# Altium integrated library TI_Logic_Specialty_Logic.IntLib: 2504 symbols (part 26 of 81)
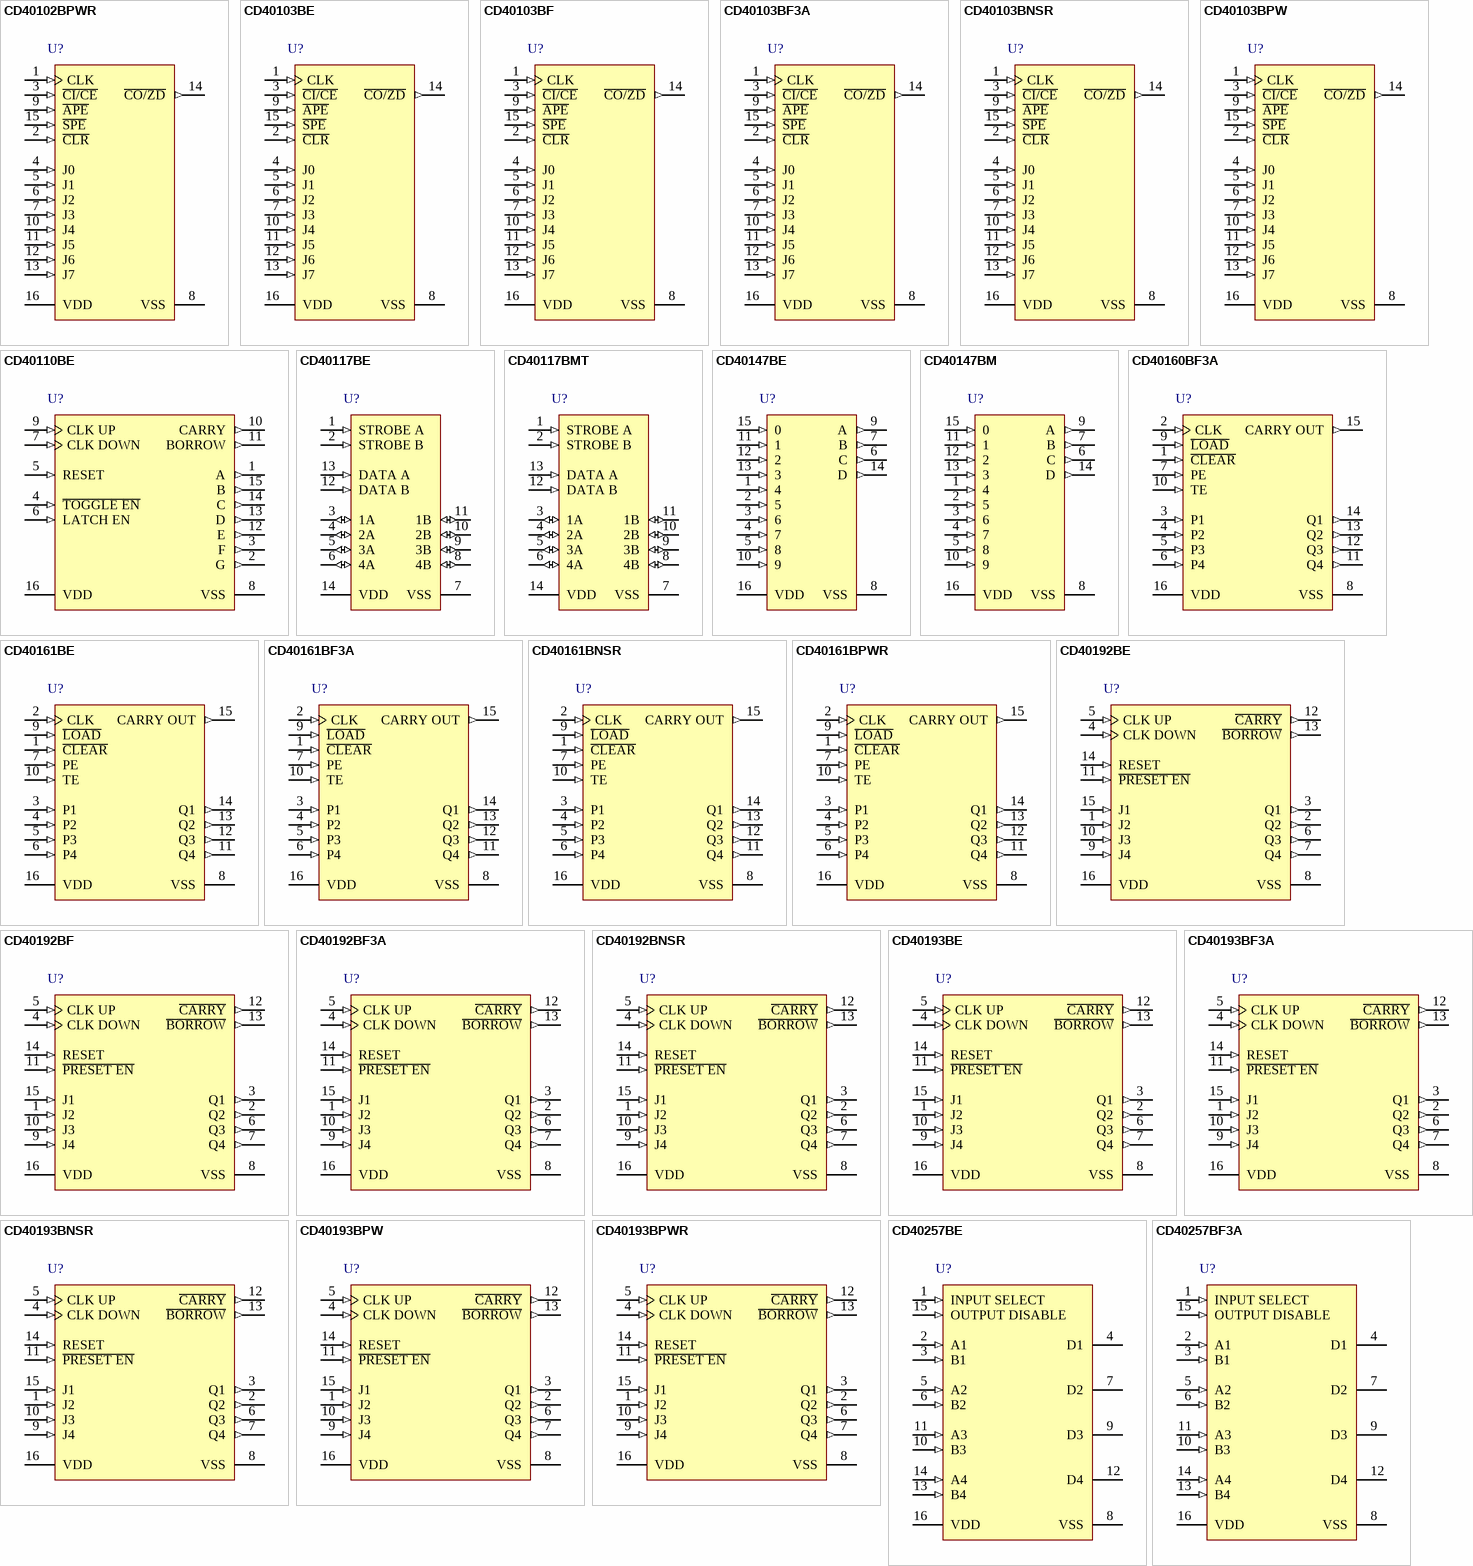
[diagram p129: symbols CD40102BPWR to CD40257BF3A]

## CD40192BNSR
designator U?
CMOS Presettable BCD Up/Down Counter (Dual Clock with Reset), NS0016A, LARGE T&R; Generic Part Number: CD40192B; Manufacturer: Texas Instruments; PartNumber: CD40192BNSR; VCC(Max)(V): 18; VCC(Min)(V): 3; Inputs: 1; ICC @ Nom Voltage(Max)(mA): 0.03; Bits(#): 4; F @ Nom Voltage(Max)(Mhz): 8; Rating: Catalog; Technology Family: CD4000; Voltage(Nom)(V): 5,10,15; Schmitt Trigger: No; Output Drive (IOL/IOH)(Max)(mA): 1.5/-1.5; tpd @ Nom Voltage(Max)(ns): 240; DatasheetVersion: SCHS106B; PackageReference: NS0016A; Supplier 1: Mouser; Supplier Part Number 1: 595-CD40192BNSR; Supplier 2: Digi-Key; Supplier Part Number 2: 296-14096-2-ND; Supplier 3: Digi-Key; Supplier Part Number 3: 296-14096-1-ND; Supplier 4: Digi-Key; Supplier Part Number 4: 296-14096-6-ND; Output Type: CMOS; Function: Counter; Input Type: CMOS; Operating Temperature Range(C): -55 to 125; Type: Other; ComponentLink1Description: Manufacturer URL; ComponentLink1URL: http://www.ti.com/; ComponentLink2Description: Datasheet; ComponentLink2URL: http://www.ti.com/lit/ds/symlink/cd40192b.pdf; ComponentLink3Description: Package Specification; ComponentLink3URL: http://www.ti.com/lit/ml/msop002a/msop002a.pdf
footprint NS0016A_N (SOIC,16-Leads,Body 10.5x5.6mm,Pitch 1.27mm,IPC Medium Density)
footprint NS0016A_M (SOIC,16-Leads,Body 10.5x5.6mm,Pitch 1.27mm,IPC Low Density)
footprint NS0016A_L (SOIC,16-Leads,Body 10.5x5.6mm,Pitch 1.27mm,IPC High Density)
pins: 1 J2 (in), 2 Q2 (out), 3 Q1 (out), 4 CLK DOWN (in), 5 CLK UP (in), 6 Q3 (out), 7 Q4 (out), 8 VSS (power), 9 J4 (in), 10 J3 (in), 11 ~{PRESET EN} (in), 12 ~{CARRY} (out), 13 ~{BORROW} (out), 14 RESET (in), 15 J1 (in), 16 VDD (power)

## CD40193BE
designator U?
CMOS Presettable Binary Up/Down Counter (Dual Clock with Reset), N0016A, TUBE; Generic Part Number: CD40193B; Manufacturer: Texas Instruments; PartNumber: CD40193BE; VCC(Max)(V): 18; VCC(Min)(V): 3; Inputs: 1; ICC @ Nom Voltage(Max)(mA): 0.03; Bits(#): 4; F @ Nom Voltage(Max)(Mhz): 8; Rating: Military; Technology Family: CD4000; Voltage(Nom)(V): 10; Schmitt Trigger: No; Output Drive (IOL/IOH)(Max)(mA): 1.5/-1.5; tpd @ Nom Voltage(Max)(ns): 240; DatasheetVersion: SCHS106B; PackageReference: N0016A; Supplier 1: Mouser; Supplier Part Number 1: 595-CD40193BE; Supplier 2: Digi-Key; Supplier Part Number 2: 296-3510-5-ND; Output Type: CMOS; Function: Counter; Input Type: CMOS; Operating Temperature Range(C): -55 to 125; Type: Binary; Code_JEDEC: MS-001; ComponentLink1Description: Manufacturer URL; ComponentLink1URL: http://www.ti.com/; ComponentLink2Description: Datasheet; ComponentLink2URL: http://www.ti.com/lit/ds/symlink/cd40193b.pdf; ComponentLink3Description: Package Specification; ComponentLink3URL: http://www.ti.com/lit/ml/mpdi002c/mpdi002c.pdf
footprint N0016A (DIP, 16-Leads, Body 19.7x6.6mm, Pitch 2.54mm)
pins: 1 J2 (in), 2 Q2 (out), 3 Q1 (out), 4 CLK DOWN (in), 5 CLK UP (in), 6 Q3 (out), 7 Q4 (out), 8 VSS (power), 9 J4 (in), 10 J3 (in), 11 ~{PRESET EN} (in), 12 ~{CARRY} (out), 13 ~{BORROW} (out), 14 RESET (in), 15 J1 (in), 16 VDD (power)

## CD40193BF3A
designator U?
CMOS Presettable Binary Up/Down Counter (Dual Clock with Reset), J0016A, TUBE; Generic Part Number: CD40193B-MIL; Manufacturer: Texas Instruments; PartNumber: CD40193BF3A; VCC(Max)(V): 18; VCC(Min)(V): 3; Inputs: 1; ICC @ Nom Voltage(Max)(mA): 0.03; Bits(#): 4; F @ Nom Voltage(Max)(Mhz): 8; Rating: Military; Technology Family: CD4000; Voltage(Nom)(V): 10; Schmitt Trigger: No; Output Drive (IOL/IOH)(Max)(mA): 1.5/-1.5; tpd @ Nom Voltage(Max)(ns): 240; DatasheetVersion: SCHS106B; PackageReference: J0016A; Output Type: CMOS; Function: Counter; Input Type: CMOS; Operating Temperature Range(C): -55 to 125; Type: Binary; ComponentLink1Description: Manufacturer URL; ComponentLink1URL: http://www.ti.com/; ComponentLink2Description: Datasheet; ComponentLink2URL: http://www.ti.com/lit/ds/symlink/cd40193b-mil.pdf; ComponentLink3Description: Package Specification; ComponentLink3URL: http://www.ti.com/lit/ml/mcer002d/mcer002d.pdf
footprint J0016A (DIP, 16-Leads, Body 21.35x7.2mm, Pitch 2.54mm)
pins: 1 J2 (in), 2 Q2 (out), 3 Q1 (out), 4 CLK DOWN (in), 5 CLK UP (in), 6 Q3 (out), 7 Q4 (out), 8 VSS (power), 9 J4 (in), 10 J3 (in), 11 ~{PRESET EN} (in), 12 ~{CARRY} (out), 13 ~{BORROW} (out), 14 RESET (in), 15 J1 (in), 16 VDD (power)

## CD40193BNSR
designator U?
CMOS Presettable Binary Up/Down Counter (Dual Clock with Reset), NS0016A, LARGE T&R; Generic Part Number: CD40193B; Manufacturer: Texas Instruments; PartNumber: CD40193BNSR; VCC(Max)(V): 18; VCC(Min)(V): 3; Inputs: 1; ICC @ Nom Voltage(Max)(mA): 0.03; Bits(#): 4; F @ Nom Voltage(Max)(Mhz): 8; Rating: Military; Technology Family: CD4000; Voltage(Nom)(V): 10; Schmitt Trigger: No; Output Drive (IOL/IOH)(Max)(mA): 1.5/-1.5; tpd @ Nom Voltage(Max)(ns): 240; DatasheetVersion: SCHS106B; PackageReference: NS0016A; Supplier 1: Mouser; Supplier Part Number 1: 595-CD40193BNSR; Supplier 2: Digi-Key; Supplier Part Number 2: 296-28692-2-ND; Supplier 3: Digi-Key; Supplier Part Number 3: 296-28692-1-ND; Supplier 4: Digi-Key; Supplier Part Number 4: 296-28692-6-ND; Output Type: CMOS; Function: Counter; Input Type: CMOS; Operating Temperature Range(C): -55 to 125; Type: Binary; ComponentLink1Description: Manufacturer URL; ComponentLink1URL: http://www.ti.com/; ComponentLink2Description: Datasheet; ComponentLink2URL: http://www.ti.com/lit/ds/symlink/cd40193b.pdf; ComponentLink3Description: Package Specification; ComponentLink3URL: http://www.ti.com/lit/ml/msop002a/msop002a.pdf
footprint NS0016A_N (SOIC,16-Leads,Body 10.5x5.6mm,Pitch 1.27mm,IPC Medium Density)
footprint NS0016A_M (SOIC,16-Leads,Body 10.5x5.6mm,Pitch 1.27mm,IPC Low Density)
footprint NS0016A_L (SOIC,16-Leads,Body 10.5x5.6mm,Pitch 1.27mm,IPC High Density)
pins: 1 J2 (in), 2 Q2 (out), 3 Q1 (out), 4 CLK DOWN (in), 5 CLK UP (in), 6 Q3 (out), 7 Q4 (out), 8 VSS (power), 9 J4 (in), 10 J3 (in), 11 ~{PRESET EN} (in), 12 ~{CARRY} (out), 13 ~{BORROW} (out), 14 RESET (in), 15 J1 (in), 16 VDD (power)

## CD40193BPW
designator U?
CMOS Presettable Binary Up/Down Counter (Dual Clock with Reset), PW0016A, TUBE; Generic Part Number: CD40193B; Manufacturer: Texas Instruments; PartNumber: CD40193BPW; VCC(Max)(V): 18; VCC(Min)(V): 3; Inputs: 1; ICC @ Nom Voltage(Max)(mA): 0.03; Bits(#): 4; F @ Nom Voltage(Max)(Mhz): 8; Rating: Military; Technology Family: CD4000; Voltage(Nom)(V): 10; Schmitt Trigger: No; Output Drive (IOL/IOH)(Max)(mA): 1.5/-1.5; tpd @ Nom Voltage(Max)(ns): 240; DatasheetVersion: SCHS106B; PackageReference: PW0016A; Supplier 1: Mouser; Supplier Part Number 1: 595-CD40193BPW; Supplier 2: Digi-Key; Supplier Part Number 2: 296-32871-5-ND; Output Type: CMOS; Function: Counter; Input Type: CMOS; Operating Temperature Range(C): -55 to 125; Type: Binary; Code_JEDEC: MO-153; ComponentLink1Description: Manufacturer URL; ComponentLink1URL: http://www.ti.com/; ComponentLink2Description: Datasheet; ComponentLink2URL: http://www.ti.com/lit/ds/symlink/cd40193b.pdf; ComponentLink3Description: Package Specification; ComponentLink3URL: http://www.ti.com/lit/ml/mpds361/mpds361.pdf
footprint PW0016A_N (SOP, 16-Leads, Body 5.1x4.5mm, Pitch 0.65mm, IPC Medium Density)
footprint PW0016A_M (SOP, 16-Leads, Body 5.1x4.5mm, Pitch 0.65mm, IPC Low Density)
footprint PW0016A_L (SOP, 16-Leads, Body 5.1x4.5mm, Pitch 0.65mm, IPC High Density)
pins: 1 J2 (in), 2 Q2 (out), 3 Q1 (out), 4 CLK DOWN (in), 5 CLK UP (in), 6 Q3 (out), 7 Q4 (out), 8 VSS (power), 9 J4 (in), 10 J3 (in), 11 ~{PRESET EN} (in), 12 ~{CARRY} (out), 13 ~{BORROW} (out), 14 RESET (in), 15 J1 (in), 16 VDD (power)

## CD40193BPWR
designator U?
CMOS Presettable Binary Up/Down Counter (Dual Clock with Reset), PW0016A, LARGE T&R; Generic Part Number: CD40193B; Manufacturer: Texas Instruments; PartNumber: CD40193BPWR; VCC(Max)(V): 18; VCC(Min)(V): 3; Inputs: 1; ICC @ Nom Voltage(Max)(mA): 0.03; Bits(#): 4; F @ Nom Voltage(Max)(Mhz): 8; Rating: Military; Technology Family: CD4000; Voltage(Nom)(V): 10; Schmitt Trigger: No; Output Drive (IOL/IOH)(Max)(mA): 1.5/-1.5; tpd @ Nom Voltage(Max)(ns): 240; DatasheetVersion: SCHS106B; PackageReference: PW0016A; Supplier 1: Mouser; Supplier Part Number 1: 595-CD40193BPWR; Supplier 2: Digi-Key; Supplier Part Number 2: 296-14253-2-ND; Supplier 3: Digi-Key; Supplier Part Number 3: 296-14253-1-ND; Supplier 4: Digi-Key; Supplier Part Number 4: 296-14253-6-ND; Output Type: CMOS; Function: Counter; Input Type: CMOS; Operating Temperature Range(C): -55 to 125; Type: Binary; Code_JEDEC: MO-153; ComponentLink1Description: Manufacturer URL; ComponentLink1URL: http://www.ti.com/; ComponentLink2Description: Datasheet; ComponentLink2URL: http://www.ti.com/lit/ds/symlink/cd40193b.pdf; ComponentLink3Description: Package Specification; ComponentLink3URL: http://www.ti.com/lit/ml/mpds361/mpds361.pdf
footprint PW0016A_N (SOP, 16-Leads, Body 5.1x4.5mm, Pitch 0.65mm, IPC Medium Density)
footprint PW0016A_M (SOP, 16-Leads, Body 5.1x4.5mm, Pitch 0.65mm, IPC Low Density)
footprint PW0016A_L (SOP, 16-Leads, Body 5.1x4.5mm, Pitch 0.65mm, IPC High Density)
pins: 1 J2 (in), 2 Q2 (out), 3 Q1 (out), 4 CLK DOWN (in), 5 CLK UP (in), 6 Q3 (out), 7 Q4 (out), 8 VSS (power), 9 J4 (in), 10 J3 (in), 11 ~{PRESET EN} (in), 12 ~{CARRY} (out), 13 ~{BORROW} (out), 14 RESET (in), 15 J1 (in), 16 VDD (power)

## CD40257BE
designator U?
CMOS Quad 2-Line-to-1-Line Data Selector/Multiplexer, N0016A, TUBE; Generic Part Number: CD40257B; Manufacturer: Texas Instruments; PartNumber: CD40257BE; VCC(Max)(V): 18; VCC(Min)(V): 3; Function: Encoder/Multiplexer; ICC @ Nom Voltage(Max)(mA): 0.06; Bits(#): 2; F @ Nom Voltage(Max)(Mhz): 8; Configuration: 2：1; Channels(#): 4; Rating: Catalog; Technology Family: CD4000; Voltage(Nom)(V): 5,10,15; Schmitt Trigger: No; Output Drive (IOL/IOH)(Max)(mA): 1.5/-1.5; tpd @ Nom Voltage(Max)(ns): 140; DatasheetVersion: SCHS108C; PackageReference: N0016A; Supplier 1: Mouser; Supplier Part Number 1: 595-CD40257BE; Supplier 2: Digi-Key; Supplier Part Number 2: 296-14259-5-ND; Output Type: CMOS; Input Type: CMOS; Operating Temperature Range(C): -55 to 125; Type: 3-State Output; Code_JEDEC: MS-001; ComponentLink1Description: Manufacturer URL; ComponentLink1URL: http://www.ti.com/; ComponentLink2Description: Datasheet; ComponentLink2URL: http://www.ti.com/lit/ds/symlink/cd40257b.pdf; ComponentLink3Description: Package Specification; ComponentLink3URL: http://www.ti.com/lit/ml/mpdi002c/mpdi002c.pdf
footprint N0016A (DIP, 16-Leads, Body 19.7x6.6mm, Pitch 2.54mm)
pins: 1 INPUT SELECT (in), 2 A1 (in), 3 B1 (in), 4 D1 (hiz), 5 A2 (in), 6 B2 (in), 7 D2 (hiz), 8 VSS (power), 9 D3 (hiz), 10 B3 (in), 11 A3 (in), 12 D4 (hiz), 13 B4 (in), 14 A4 (in), 15 OUTPUT DISABLE (in), 16 VDD (power)

## CD40257BF3A
designator U?
CMOS Quad 2-Line-to-1-Line Data Selector/Multiplexer, J0016A, TUBE; Generic Part Number: CD40257B-MIL; Manufacturer: Texas Instruments; PartNumber: CD40257BF3A; VCC(Max)(V): 18; VCC(Min)(V): 3; ICC @ Nom Voltage(Max)(mA): 0.06; F @ Nom Voltage(Max)(Mhz): 8; Channels(#): 4; Rating: Military; Technology Family: CD4000; Voltage(Nom)(V): 10; Schmitt Trigger: No; Output Drive (IOL/IOH)(Max)(mA): 1.5/-1.5; tpd @ Nom Voltage(Max)(ns): 140; DatasheetVersion: SCHS108C; PackageReference: J0016A; Operating Temperature Range(C): -55 to 125; ComponentLink1Description: Manufacturer URL; ComponentLink1URL: http://www.ti.com/; ComponentLink2Description: Datasheet; ComponentLink2URL: http://www.ti.com/lit/ds/symlink/cd40257b-mil.pdf; ComponentLink3Description: Package Specification; ComponentLink3URL: http://www.ti.com/lit/ml/mcer002d/mcer002d.pdf
footprint J0016A (DIP, 16-Leads, Body 21.35x7.2mm, Pitch 2.54mm)
pins: 1 INPUT SELECT (in), 2 A1 (in), 3 B1 (in), 4 D1 (hiz), 5 A2 (in), 6 B2 (in), 7 D2 (hiz), 8 VSS (power), 9 D3 (hiz), 10 B3 (in), 11 A3 (in), 12 D4 (hiz), 13 B4 (in), 14 A4 (in), 15 OUTPUT DISABLE (in), 16 VDD (power)

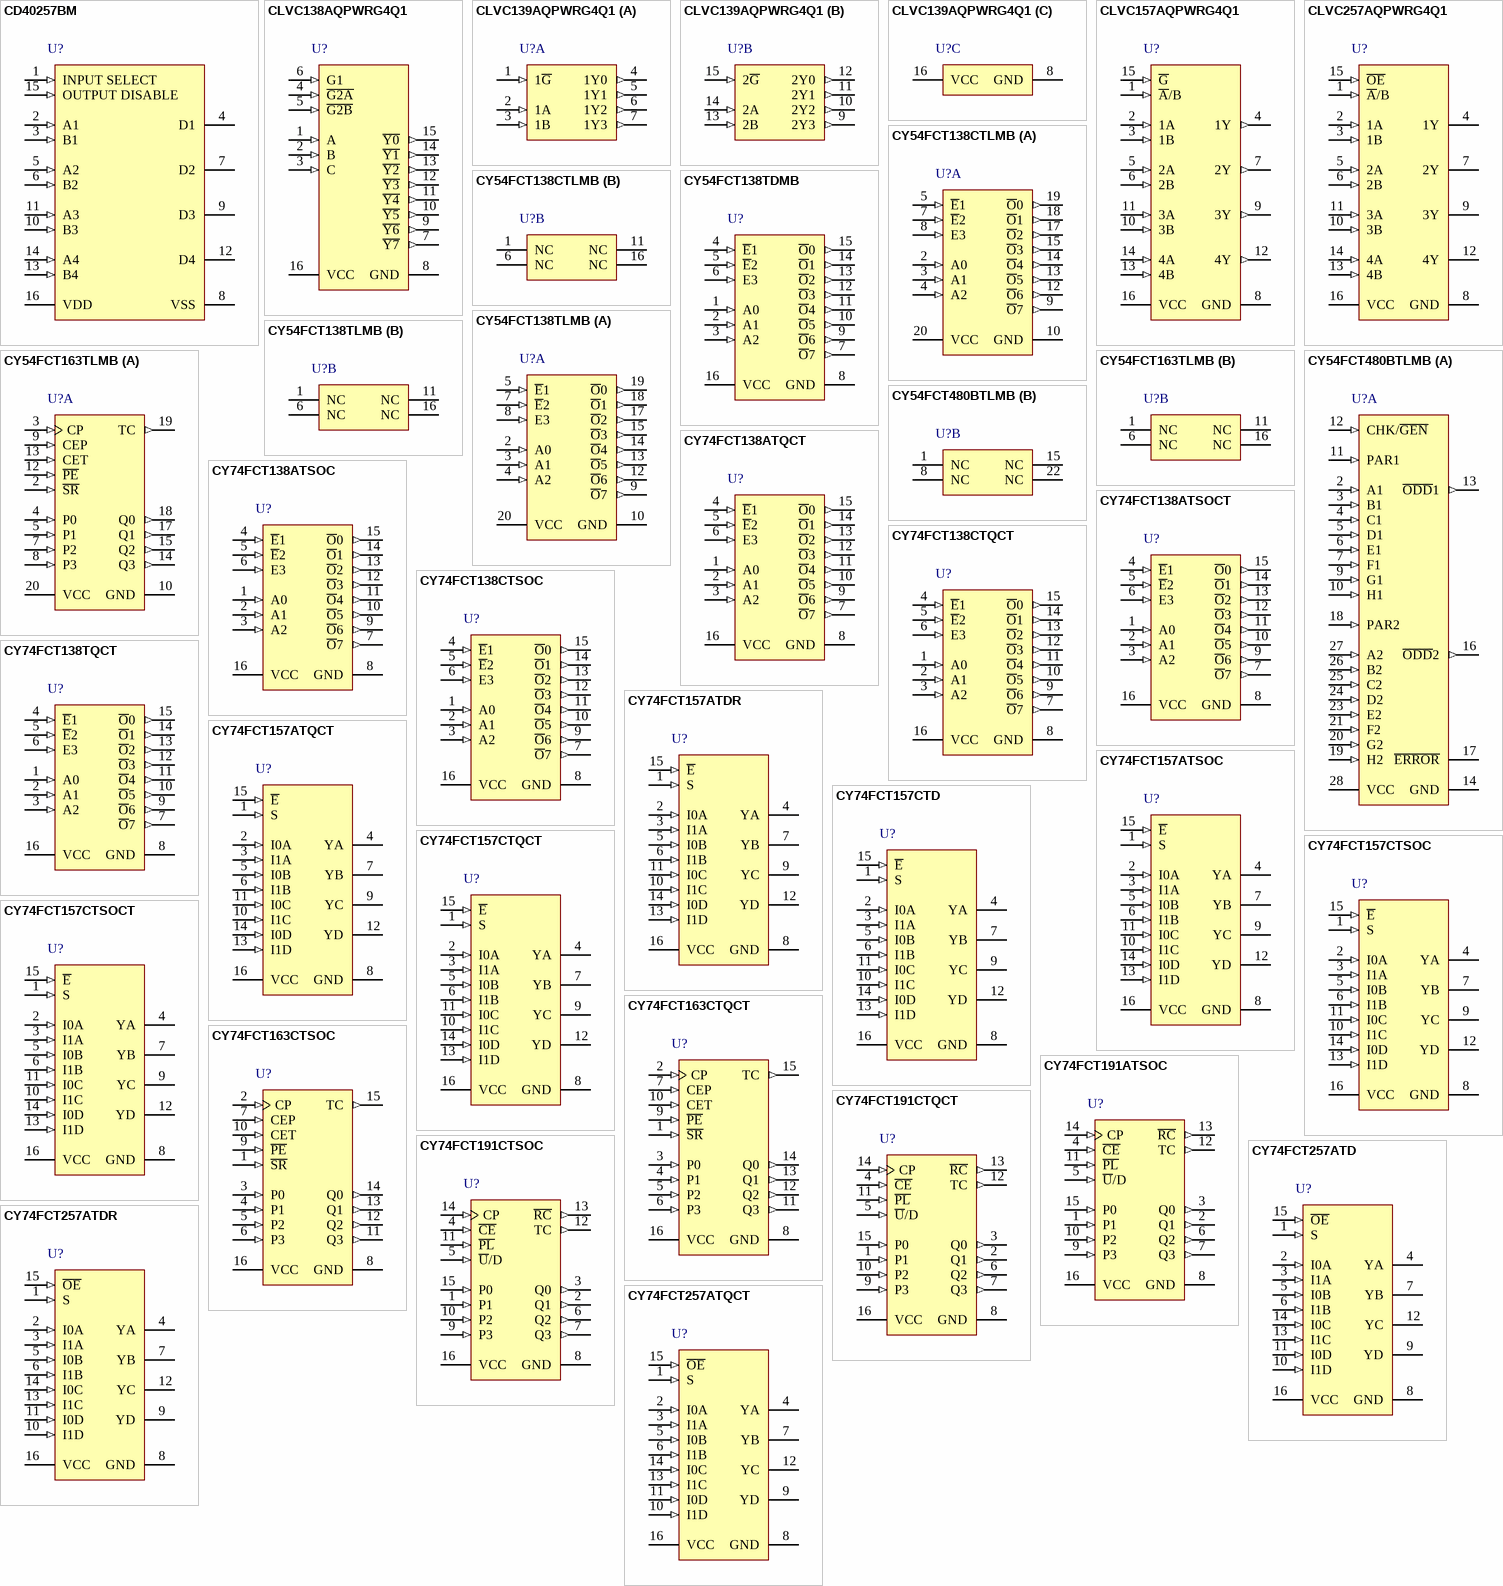
[diagram p35: symbols CD40257BM to CY74FCT257ATQCT]

## CD40257BM
designator U?
CMOS Quad 2-Line-to-1-Line Data Selector/Multiplexer, D0016A, TUBE; Generic Part Number: CD40257B; Manufacturer: Texas Instruments; PartNumber: CD40257BM; VCC(Max)(V): 18; VCC(Min)(V): 3; Function: Encoder/Multiplexer; ICC @ Nom Voltage(Max)(mA): 0.06; Bits(#): 2; F @ Nom Voltage(Max)(Mhz): 8; Configuration: 2：1; Channels(#): 4; Rating: Catalog; Technology Family: CD4000; Voltage(Nom)(V): 5,10,15; Schmitt Trigger: No; Output Drive (IOL/IOH)(Max)(mA): 1.5/-1.5; tpd @ Nom Voltage(Max)(ns): 140; DatasheetVersion: SCHS108C; PackageReference: D0016A; Supplier 1: Mouser; Supplier Part Number 1: 595-CD40257BM; Supplier 2: Digi-Key; Supplier Part Number 2: 296-32875-5-ND; Output Type: CMOS; Input Type: CMOS; Operating Temperature Range(C): -55 to 125; Type: 3-State Output; Code_JEDEC: MS-012 variation AC; ComponentLink1Description: Manufacturer URL; ComponentLink1URL: http://www.ti.com/; ComponentLink2Description: Datasheet; ComponentLink2URL: http://www.ti.com/lit/ds/symlink/cd40257b.pdf; ComponentLink3Description: Package Specification; ComponentLink3URL: http://www.ti.com/lit/ml/mpds178g/mpds178g.pdf
footprint D0016A_N (SOIC, 16-Leads, Body 10x4mm, Pitch 1.27mm, IPC Medium Density)
footprint D0016A_M (SOIC, 16-Leads, Body 10x4mm, Pitch 1.27mm, IPC Low Density)
footprint D0016A_L (SOIC, 16-Leads, Body 10x4mm, Pitch 1.27mm, IPC High Density)
pins: 1 INPUT SELECT (in), 2 A1 (in), 3 B1 (in), 4 D1 (hiz), 5 A2 (in), 6 B2 (in), 7 D2 (hiz), 8 VSS (power), 9 D3 (hiz), 10 B3 (in), 11 A3 (in), 12 D4 (hiz), 13 B4 (in), 14 A4 (in), 15 OUTPUT DISABLE (in), 16 VDD (power)

## CLVC138AQPWRG4Q1
designator U?
Automotive Catalog 3-Line To 8-Line decoder/Demultiplexer, PW0016A, LARGE T&R; Generic Part Number: SN74LVC138A-Q1; Manufacturer: Texas Instruments; PartNumber: CLVC138AQPWRG4Q1; VCC(Min)(V): 2; VCC(Max)(V): 3.6; Output Type: CMOS; ICC @ Nom Voltage(Max)(mA): 0.01; Input Type: TLL/CMOS; Bits(#): 8; F @ Nom Voltage(Max)(Mhz): 100; Channels(#): 1; Technology Family: LVC; Voltage(Nom)(V): 2.7,3.3; Schmitt Trigger: No; Output Drive (IOL/IOH)(Max)(mA): 24/-24; tpd @ Nom Voltage(Max)(ns): 7.9,6.7; DatasheetVersion: SCAS708B; PackageReference: PW0016A; Supplier 1: Mouser; Supplier Part Number 1: 595-CLVC138AQPWRG4Q1; Supplier 2: Digi-Key; Supplier Part Number 2: CLVC138AQPWRG4Q1-ND; Operating Temperature Range(C): -40 to 125; Type: Standard; Rating: Automotive; Code_JEDEC: MO-153; ComponentLink1Description: Manufacturer URL; ComponentLink1URL: http://www.ti.com/; ComponentLink2Description: Datasheet; ComponentLink2URL: http://www.ti.com/lit/ds/symlink/sn74lvc138a-q1.pdf; ComponentLink3Description: Package Specification; ComponentLink3URL: http://www.ti.com/lit/ml/mpds361/mpds361.pdf
footprint PW0016A_N (SOP, 16-Leads, Body 5.1x4.5mm, Pitch 0.65mm, IPC Medium Density)
footprint PW0016A_M (SOP, 16-Leads, Body 5.1x4.5mm, Pitch 0.65mm, IPC Low Density)
footprint PW0016A_L (SOP, 16-Leads, Body 5.1x4.5mm, Pitch 0.65mm, IPC High Density)
pins: 1 A (in), 2 B (in), 3 C (in), 4 ~{G2A} (in), 5 ~{G2B} (in), 6 G1 (in), 7 ~{Y7} (out), 8 GND (power), 9 ~{Y6} (out), 10 ~{Y5} (out), 11 ~{Y4} (out), 12 ~{Y3} (out), 13 ~{Y2} (out), 14 ~{Y1} (out), 15 ~{Y0} (out), 16 VCC (power)

## CLVC139AQPWRG4Q1
designator U?
Automotive Catalog Dual 2-Line To 4-Line Decoder/Demultiplexer, PW0016A, LARGE T&R; Generic Part Number: SN74LVC139A-Q1; Manufacturer: Texas Instruments; PartNumber: CLVC139AQPWRG4Q1; VCC(Min)(V): 1.65; VCC(Max)(V): 3.6; Output Type: CMOS; ICC @ Nom Voltage(Max)(mA): 0.01; Input Type: TLL/CMOS; Bits(#): 4; F @ Nom Voltage(Max)(Mhz): 100; Channels(#): 2; Technology Family: LVC; Voltage(Nom)(V): 2.7,3.3; Schmitt Trigger: No; Output Drive (IOL/IOH)(Max)(mA): 24/-24; tpd @ Nom Voltage(Max)(ns): 6.7,6.2; DatasheetVersion: SCAS782B; PackageReference: PW0016A; Supplier 1: Mouser; Supplier Part Number 1: 595-CLVC139AQPWRG4Q1; Supplier 2: Digi-Key; Supplier Part Number 2: 296-23523-2-ND; Supplier 3: Digi-Key; Supplier Part Number 3: 296-23523-1-ND; Supplier 4: Digi-Key; Supplier Part Number 4: 296-23523-6-ND; Operating Temperature Range(C): -40 to 125; Type: Standard; Rating: Automotive; Code_JEDEC: MO-153; ComponentLink1Description: Manufacturer URL; ComponentLink1URL: http://www.ti.com/; ComponentLink2Description: Datasheet; ComponentLink2URL: http://www.ti.com/lit/ds/symlink/sn74lvc139a-q1.pdf; ComponentLink3Description: Package Specification; ComponentLink3URL: http://www.ti.com/lit/ml/mpds361/mpds361.pdf
footprint PW0016A_N (SOP, 16-Leads, Body 5.1x4.5mm, Pitch 0.65mm, IPC Medium Density)
footprint PW0016A_M (SOP, 16-Leads, Body 5.1x4.5mm, Pitch 0.65mm, IPC Low Density)
footprint PW0016A_L (SOP, 16-Leads, Body 5.1x4.5mm, Pitch 0.65mm, IPC High Density)
part A pins: 1 1~{G} (in), 2 1A (in), 3 1B (in), 4 1Y0 (out), 5 1Y1 (out), 6 1Y2 (out), 7 1Y3 (out)
part B pins: 9 2Y3 (out), 10 2Y2 (out), 11 2Y1 (out), 12 2Y0 (out), 13 2B (in), 14 2A (in), 15 2~{G} (in)
part C pins: 8 GND (power), 16 VCC (power)

## CLVC157AQPWRG4Q1
designator U?
Automotive Catalog Quadruple 2-Line To 1-Line Data Selector / Multiplexer, PW0016A, LARGE T&R; Generic Part Number: SN74LVC157A-Q1; Manufacturer: Texas Instruments; PartNumber: CLVC157AQPWRG4Q1; VCC(Min)(V): 2; VCC(Max)(V): 3.6; Output Type: CMOS; ICC @ Nom Voltage(Max)(mA): 0.01; Input Type: TLL/CMOS; F @ Nom Voltage(Max)(Mhz): 100; Channels(#): 4; Technology Family: LVC; Voltage(Nom)(V): 2.7,3.3; Schmitt Trigger: No; Output Drive (IOL/IOH)(Max)(mA): 24/-24; tpd @ Nom Voltage(Max)(ns): 8.2,7; DatasheetVersion: SCAS716C; PackageReference: PW0016A; Supplier 1: Mouser; Supplier Part Number 1: 595-CLVC157AQPWRG4Q1; Supplier 2: Digi-Key; Supplier Part Number 2: CLVC157AQPWRG4Q1-ND; Bits(#): 2; Operating Temperature Range(C): -40 to 125; Type: Standard; Rating: Automotive; Code_JEDEC: MO-153; ComponentLink1Description: Manufacturer URL; ComponentLink1URL: http://www.ti.com/; ComponentLink2Description: Datasheet; ComponentLink2URL: http://www.ti.com/lit/ds/symlink/sn74lvc157a-q1.pdf; ComponentLink3Description: Package Specification; ComponentLink3URL: http://www.ti.com/lit/ml/mpds361/mpds361.pdf
footprint PW0016A_N (SOP, 16-Leads, Body 5.1x4.5mm, Pitch 0.65mm, IPC Medium Density)
footprint PW0016A_M (SOP, 16-Leads, Body 5.1x4.5mm, Pitch 0.65mm, IPC Low Density)
footprint PW0016A_L (SOP, 16-Leads, Body 5.1x4.5mm, Pitch 0.65mm, IPC High Density)
pins: 1 ~{A}/B (in), 2 1A (in), 3 1B (in), 4 1Y (out), 5 2A (in), 6 2B (in), 7 2Y (out), 8 GND (power), 9 3Y (out), 10 3B (in), 11 3A (in), 12 4Y (out), 13 4B (in), 14 4A (in), 15 ~{G} (in), 16 VCC (power)

## CLVC257AQPWRG4Q1
designator U?
Automotive Catalog Quadruple 2-Line To 1-Line Data Selector/Multiplexer With 3-State Outputs, PW0016A, LARGE T&R; Generic Part Number: SN74LVC257A-Q1; Manufacturer: Texas Instruments; PartNumber: CLVC257AQPWRG4Q1; VCC(Min)(V): 2; VCC(Max)(V): 3.6; Output Type: CMOS; ICC @ Nom Voltage(Max)(mA): 0.01; Input Type: TLL/CMOS; F @ Nom Voltage(Max)(Mhz): 100; Channels(#): 4; Technology Family: LVC; Voltage(Nom)(V): 2.7,3.3; Schmitt Trigger: No; Output Drive (IOL/IOH)(Max)(mA): 24/-24; tpd @ Nom Voltage(Max)(ns): 7.5,6.4; DatasheetVersion: SCAS709B; PackageReference: PW0016A; Supplier 1: Mouser; Supplier Part Number 1: 595-CLVC257AQPWRG4Q1; Supplier 2: Digi-Key; Supplier Part Number 2: CLVC257AQPWRG4Q1-ND; Bits(#): 2; Operating Temperature Range(C): -40 to 125; Type: 3-State Output; Rating: Automotive; Code_JEDEC: MO-153; ComponentLink1Description: Manufacturer URL; ComponentLink1URL: http://www.ti.com/; ComponentLink2Description: Datasheet; ComponentLink2URL: http://www.ti.com/lit/ds/symlink/sn74lvc257a-q1.pdf; ComponentLink3Description: Package Specification; ComponentLink3URL: http://www.ti.com/lit/ml/mpds361/mpds361.pdf
footprint PW0016A_N (SOP, 16-Leads, Body 5.1x4.5mm, Pitch 0.65mm, IPC Medium Density)
footprint PW0016A_M (SOP, 16-Leads, Body 5.1x4.5mm, Pitch 0.65mm, IPC Low Density)
footprint PW0016A_L (SOP, 16-Leads, Body 5.1x4.5mm, Pitch 0.65mm, IPC High Density)
pins: 1 ~{A}/B (in), 2 1A (in), 3 1B (in), 4 1Y (hiz), 5 2A (in), 6 2B (in), 7 2Y (hiz), 8 GND (power), 9 3Y (hiz), 10 3B (in), 11 3A (in), 12 4Y (hiz), 13 4B (in), 14 4A (in), 15 ~{OE} (in), 16 VCC (power)

## CY54FCT138CTLMB
designator U?
1-of-8 Decoder, FK0020A, TUBE; Generic Part Number: CY54FCT138T; Manufacturer: Texas Instruments; PartNumber: CY54FCT138CTLMB; Rating: Military; Technology Family: FCT; Schmitt Trigger: No; DatasheetVersion: SCCS013B; PackageReference: FK0020A; Operating Temperature Range(C): -55 to 125; Code_JEDEC: MS-004; ComponentLink1Description: Manufacturer URL; ComponentLink1URL: http://www.ti.com/; ComponentLink2Description: Datasheet; ComponentLink2URL: http://www.ti.com/lit/ds/symlink/cy54fct138t.pdf; ComponentLink3Description: Package Specification; ComponentLink3URL: http://www.ti.com/lit/ml/mlcc006d/mlcc006d.pdf
footprint FK0020A_N (LCC, 20-Leads, Body 8.9x8.9mm, Pitch 1.27mm, IPC Medium Density)
footprint FK0020A_M (LCC, 20-Leads, Body 8.9x8.9mm, Pitch 1.27mm, IPC Low Density)
footprint FK0020A_L (LCC, 20-Leads, Body 8.9x8.9mm, Pitch 1.27mm, IPC High Density)
part A pins: 2 A0 (in) "Address inputs", 3 A1 (in) "Address inputs", 4 A2 (in) "Address inputs", 5 ~{E}1 (in) "Enable inputs (active low)", 7 ~{E}2 (in) "Enable inputs (active low)", 8 E3 (in) "Enable input (active high)", 9 ~{O}7 (out) "Outputs", 10 GND (power), 12 ~{O}6 (out) "Outputs", 13 ~{O}5 (out) "Outputs", 14 ~{O}4 (out) "Outputs", 15 ~{O}3 (out) "Outputs", 17 ~{O}2 (out) "Outputs", 18 ~{O}1 (out) "Outputs", 19 ~{O}0 (out) "Outputs", 20 VCC (power)
part B pins: 1 NC, 6 NC, 11 NC, 16 NC

## CY54FCT138TDMB
designator U?
1-of-8 Decoder, J0016A, TUBE; Generic Part Number: CY54FCT138T; Manufacturer: Texas Instruments; PartNumber: CY54FCT138TDMB; Rating: Military; Technology Family: FCT; Schmitt Trigger: No; DatasheetVersion: SCCS013B; PackageReference: J0016A; Operating Temperature Range(C): -55 to 125; ComponentLink1Description: Manufacturer URL; ComponentLink1URL: http://www.ti.com/; ComponentLink2Description: Datasheet; ComponentLink2URL: http://www.ti.com/lit/ds/symlink/cy54fct138t.pdf; ComponentLink3Description: Package Specification; ComponentLink3URL: http://www.ti.com/lit/ml/mcer002d/mcer002d.pdf
footprint J0016A (DIP, 16-Leads, Body 21.35x7.2mm, Pitch 2.54mm)
pins: 1 A0 (in) "Address inputs", 2 A1 (in) "Address inputs", 3 A2 (in) "Address inputs", 4 ~{E}1 (in) "Enable inputs (active low)", 5 ~{E}2 (in) "Enable inputs (active low)", 6 E3 (in) "Enable input (active high)", 7 ~{O}7 (out) "Outputs", 8 GND (power), 9 ~{O}6 (out) "Outputs", 10 ~{O}5 (out) "Outputs", 11 ~{O}4 (out) "Outputs", 12 ~{O}3 (out) "Outputs", 13 ~{O}2 (out) "Outputs", 14 ~{O}1 (out) "Outputs", 15 ~{O}0 (out) "Outputs", 16 VCC (power)

## CY54FCT138TLMB
designator U?
1-of-8 Decoder, FK0020A, TUBE; Generic Part Number: CY54FCT138T; Manufacturer: Texas Instruments; PartNumber: CY54FCT138TLMB; Rating: Military; Technology Family: FCT; Schmitt Trigger: No; DatasheetVersion: SCCS013B; PackageReference: FK0020A; Operating Temperature Range(C): -55 to 125; Code_JEDEC: MS-004; ComponentLink1Description: Manufacturer URL; ComponentLink1URL: http://www.ti.com/; ComponentLink2Description: Datasheet; ComponentLink2URL: http://www.ti.com/lit/ds/symlink/cy54fct138t.pdf; ComponentLink3Description: Package Specification; ComponentLink3URL: http://www.ti.com/lit/ml/mlcc006d/mlcc006d.pdf
footprint FK0020A_N (LCC, 20-Leads, Body 8.9x8.9mm, Pitch 1.27mm, IPC Medium Density)
footprint FK0020A_M (LCC, 20-Leads, Body 8.9x8.9mm, Pitch 1.27mm, IPC Low Density)
footprint FK0020A_L (LCC, 20-Leads, Body 8.9x8.9mm, Pitch 1.27mm, IPC High Density)
part A pins: 2 A0 (in) "Address inputs", 3 A1 (in) "Address inputs", 4 A2 (in) "Address inputs", 5 ~{E}1 (in) "Enable inputs (active low)", 7 ~{E}2 (in) "Enable inputs (active low)", 8 E3 (in) "Enable input (active high)", 9 ~{O}7 (out) "Outputs", 10 GND (power), 12 ~{O}6 (out) "Outputs", 13 ~{O}5 (out) "Outputs", 14 ~{O}4 (out) "Outputs", 15 ~{O}3 (out) "Outputs", 17 ~{O}2 (out) "Outputs", 18 ~{O}1 (out) "Outputs", 19 ~{O}0 (out) "Outputs", 20 VCC (power)
part B pins: 1 NC, 6 NC, 11 NC, 16 NC

## CY54FCT163TLMB
designator U?
Synchronous 4-Bit Binary Counter, FK0020A, TUBE; Generic Part Number: CY54FCT163T; Manufacturer: Texas Instruments; PartNumber: CY54FCT163TLMB; VCC(Min)(V): 4.75; VCC(Max)(V): 5.25; Inputs: 1; ICC @ Nom Voltage(Max)(mA): 0.2; Bits(#): 4; F @ Nom Voltage(Max)(Mhz): 70; Rating: Military; Technology Family: FCT; Output Drive (IOL/IOH)(Max)(mA): 64/-32; tpd @ Nom Voltage(Max)(ns): 7.8; DatasheetVersion: SCCS015A; PackageReference: FK0020A; Function: Counter; Operating Temperature Range(C): -55 to 125; Type: Binary; Code_JEDEC: MS-004; ComponentLink1Description: Manufacturer URL; ComponentLink1URL: http://www.ti.com/; ComponentLink2Description: Datasheet; ComponentLink2URL: http://www.ti.com/lit/ds/symlink/cy54fct163t.pdf; ComponentLink3Description: Package Specification; ComponentLink3URL: http://www.ti.com/lit/ml/mlcc006d/mlcc006d.pdf
footprint FK0020A_N (LCC, 20-Leads, Body 8.9x8.9mm, Pitch 1.27mm, IPC Medium Density)
footprint FK0020A_M (LCC, 20-Leads, Body 8.9x8.9mm, Pitch 1.27mm, IPC Low Density)
footprint FK0020A_L (LCC, 20-Leads, Body 8.9x8.9mm, Pitch 1.27mm, IPC High Density)
part A pins: 2 ~{SR} (in) "Synchronous-reset input (active low)", 3 CP (in) "Clock pulse input (active rising edge)", 4 P0 (in) "Parallel data inputs", 5 P1 (in) "Parallel data inputs", 7 P2 (in) "Parallel data inputs", 8 P3 (in) "Parallel data inputs", 9 CEP (in) "Count-enable parallel input", 10 GND (power), 12 ~{PE} (in) "Parallel-enable input (active low)", 13 CET (in) "Count-enable trickle input", 14 Q3 (out) "Flip-flop outputs", 15 Q2 (out) "Flip-flop outputs", 17 Q1 (out) "Flip-flop outputs", 18 Q0 (out) "Flip-flop outputs", 19 TC (out) "Terminal-count output", 20 VCC (power)
part B pins: 1 NC, 6 NC, 11 NC, 16 NC

## CY54FCT480BTLMB
designator U?
Dual 8-Bit Parity Generator/Checker, FK0028A, TUBE; Generic Part Number: CY54FCT480T; Manufacturer: Texas Instruments; PartNumber: CY54FCT480BTLMB; Rating: Military; Technology Family: FCT; DatasheetVersion: SCCS025B; PackageReference: FK0028A; Operating Temperature Range(C): -55 to 125; Code_JEDEC: MS-004; ComponentLink1Description: Manufacturer URL; ComponentLink1URL: http://www.ti.com/; ComponentLink2Description: Datasheet; ComponentLink2URL: http://www.ti.com/lit/ds/symlink/cy54fct480t.pdf; ComponentLink3Description: Package Specification; ComponentLink3URL: http://www.ti.com/lit/ml/mlcc006d/mlcc006d.pdf
footprint FK0028A_N (LCC, 28-Leads, Body 11.43x11.43mm, Pitch 1.27mm, IPC Medium Density)
footprint FK0028A_M (LCC, 28-Leads, Body 11.43x11.43mm, Pitch 1.27mm, IPC Low Density)
footprint FK0028A_L (LCC, 28-Leads, Body 11.43x11.43mm, Pitch 1.27mm, IPC High Density)
part A pins: 2 A1 (in), 3 B1 (in), 4 C1 (in), 5 D1 (in), 6 E1 (in), 7 F1 (in), 9 G1 (in), 10 H1 (in), 11 PAR1 (in), 12 CHK/~{GEN} (in), 13 ~{ODD}1 (out), 14 GND (power), 16 ~{ODD}2 (out), 17 ~{ERROR} (oc), 18 PAR2 (in), 19 H2 (in), 20 G2 (in), 21 F2 (in), 23 E2 (in), 24 D2 (in), 25 C2 (in), 26 B2 (in), 27 A2 (in), 28 VCC (power)
part B pins: 1 NC, 8 NC, 15 NC, 22 NC

## CY74FCT138ATQCT
designator U?
1-of-8 Decoder, DBQ0016A, LARGE T&R; Generic Part Number: CY74FCT138T; Manufacturer: Texas Instruments; PartNumber: CY74FCT138ATQCT; VCC(Min)(V): 4.75; VCC(Max)(V): 5.25; Output Type: CMOS; ICC @ Nom Voltage(Max)(mA): 0.2; Input Type: TTL; Bits(#): 8; F @ Nom Voltage(Max)(Mhz): 70; Configuration: 3：8; Channels(#): 1; Rating: Catalog; Technology Family: FCT; Voltage(Nom)(V): 5; Schmitt Trigger: No; Output Drive (IOL/IOH)(Max)(mA): 64/-32; tpd @ Nom Voltage(Max)(ns): 5.8; DatasheetVersion: SCCS013B; PackageReference: DBQ0016A; Supplier 1: Mouser; Supplier Part Number 1: 595-CY74FCT138ATQCT; Supplier 2: Digi-Key; Supplier Part Number 2: 296-14563-2-ND; Supplier 3: Digi-Key; Supplier Part Number 3: 296-14563-1-ND; Supplier 4: Digi-Key; Supplier Part Number 4: 296-14563-6-ND; Operating Temperature Range(C): -40 to 85; ComponentLink1Description: Manufacturer URL; ComponentLink1URL: http://www.ti.com/; ComponentLink2Description: Datasheet; ComponentLink2URL: http://www.ti.com/lit/ds/symlink/cy74fct138t.pdf; ComponentLink3Description: Package Specification; ComponentLink3URL: http://www.ti.com/lit/ml/msoi004g/msoi004g.pdf
footprint DBQ0016A_N (SOP, 16-Leads, Body 5x4mm, Pitch 0.635mm, IPC Medium Density)
footprint DBQ0016A_M (SOP, 16-Leads, Body 5x4mm, Pitch 0.635mm, IPC Low Density)
footprint DBQ0016A_L (SOP, 16-Leads, Body 5x4mm, Pitch 0.635mm, IPC High Density)
pins: 1 A0 (in) "Address inputs", 2 A1 (in) "Address inputs", 3 A2 (in) "Address inputs", 4 ~{E}1 (in) "Enable inputs (active low)", 5 ~{E}2 (in) "Enable inputs (active low)", 6 E3 (in) "Enable input (active high)", 7 ~{O}7 (out) "Outputs", 8 GND (power), 9 ~{O}6 (out) "Outputs", 10 ~{O}5 (out) "Outputs", 11 ~{O}4 (out) "Outputs", 12 ~{O}3 (out) "Outputs", 13 ~{O}2 (out) "Outputs", 14 ~{O}1 (out) "Outputs", 15 ~{O}0 (out) "Outputs", 16 VCC (power)

## CY74FCT138ATSOC
designator U?
1-of-8 Decoder, DW0016A, TUBE; Generic Part Number: CY74FCT138T; Manufacturer: Texas Instruments; PartNumber: CY74FCT138ATSOC; VCC(Min)(V): 4.75; VCC(Max)(V): 5.25; Output Type: CMOS; ICC @ Nom Voltage(Max)(mA): 0.2; Input Type: TTL; Bits(#): 8; F @ Nom Voltage(Max)(Mhz): 70; Configuration: 3：8; Channels(#): 1; Rating: Catalog; Technology Family: FCT; Voltage(Nom)(V): 5; Schmitt Trigger: No; Output Drive (IOL/IOH)(Max)(mA): 64/-32; tpd @ Nom Voltage(Max)(ns): 5.8; DatasheetVersion: SCCS013B; PackageReference: DW0016A; Supplier 1: Mouser; Supplier Part Number 1: 595-CY74FCT138ATSOC; Supplier 2: Digi-Key; Supplier Part Number 2: 296-33178-5-ND; Operating Temperature Range(C): -40 to 85; Code_JEDEC: MS-013 variation AA; ComponentLink1Description: Manufacturer URL; ComponentLink1URL: http://www.ti.com/; ComponentLink2Description: Datasheet; ComponentLink2URL: http://www.ti.com/lit/ds/symlink/cy74fct138t.pdf; ComponentLink3Description: Package Specification; ComponentLink3URL: http://www.ti.com/lit/ml/msoi003g/msoi003g.pdf
footprint DW0016A_N (SOIC, 16-Leads, Body 10.5x7.6mm, Pitch 1.27mm, IPC Medium Density)
footprint DW0016A_M (SOIC, 16-Leads, Body 10.5x7.6mm, Pitch 1.27mm, IPC Low Density)
footprint DW0016A_L (SOIC, 16-Leads, Body 10.5x7.6mm, Pitch 1.27mm, IPC High Density)
pins: 1 A0 (in) "Address inputs", 2 A1 (in) "Address inputs", 3 A2 (in) "Address inputs", 4 ~{E}1 (in) "Enable inputs (active low)", 5 ~{E}2 (in) "Enable inputs (active low)", 6 E3 (in) "Enable input (active high)", 7 ~{O}7 (out) "Outputs", 8 GND (power), 9 ~{O}6 (out) "Outputs", 10 ~{O}5 (out) "Outputs", 11 ~{O}4 (out) "Outputs", 12 ~{O}3 (out) "Outputs", 13 ~{O}2 (out) "Outputs", 14 ~{O}1 (out) "Outputs", 15 ~{O}0 (out) "Outputs", 16 VCC (power)

## CY74FCT138ATSOCT
designator U?
1-of-8 Decoder, DW0016A, LARGE T&R; Generic Part Number: CY74FCT138T; Manufacturer: Texas Instruments; PartNumber: CY74FCT138ATSOCT; VCC(Min)(V): 4.75; VCC(Max)(V): 5.25; Output Type: CMOS; ICC @ Nom Voltage(Max)(mA): 0.2; Input Type: TTL; Bits(#): 8; F @ Nom Voltage(Max)(Mhz): 70; Configuration: 3：8; Channels(#): 1; Rating: Catalog; Technology Family: FCT; Voltage(Nom)(V): 5; Schmitt Trigger: No; Output Drive (IOL/IOH)(Max)(mA): 64/-32; tpd @ Nom Voltage(Max)(ns): 5.8; DatasheetVersion: SCCS013B; PackageReference: DW0016A; Supplier 1: Mouser; Supplier Part Number 1: 595-CY74FCT138ATSOCT; Supplier 2: Digi-Key; Supplier Part Number 2: CY74FCT138ATSOCT-ND; Operating Temperature Range(C): -40 to 85; Code_JEDEC: MS-013 variation AA; ComponentLink1Description: Manufacturer URL; ComponentLink1URL: http://www.ti.com/; ComponentLink2Description: Datasheet; ComponentLink2URL: http://www.ti.com/lit/ds/symlink/cy74fct138t.pdf; ComponentLink3Description: Package Specification; ComponentLink3URL: http://www.ti.com/lit/ml/msoi003g/msoi003g.pdf
footprint DW0016A_N (SOIC, 16-Leads, Body 10.5x7.6mm, Pitch 1.27mm, IPC Medium Density)
footprint DW0016A_M (SOIC, 16-Leads, Body 10.5x7.6mm, Pitch 1.27mm, IPC Low Density)
footprint DW0016A_L (SOIC, 16-Leads, Body 10.5x7.6mm, Pitch 1.27mm, IPC High Density)
pins: 1 A0 (in) "Address inputs", 2 A1 (in) "Address inputs", 3 A2 (in) "Address inputs", 4 ~{E}1 (in) "Enable inputs (active low)", 5 ~{E}2 (in) "Enable inputs (active low)", 6 E3 (in) "Enable input (active high)", 7 ~{O}7 (out) "Outputs", 8 GND (power), 9 ~{O}6 (out) "Outputs", 10 ~{O}5 (out) "Outputs", 11 ~{O}4 (out) "Outputs", 12 ~{O}3 (out) "Outputs", 13 ~{O}2 (out) "Outputs", 14 ~{O}1 (out) "Outputs", 15 ~{O}0 (out) "Outputs", 16 VCC (power)

## CY74FCT138CTQCT
designator U?
1-of-8 Decoder, DBQ0016A, LARGE T&R; Generic Part Number: CY74FCT138T; Manufacturer: Texas Instruments; PartNumber: CY74FCT138CTQCT; VCC(Min)(V): 4.75; VCC(Max)(V): 5.25; Output Type: CMOS; ICC @ Nom Voltage(Max)(mA): 0.2; Input Type: TTL; Bits(#): 8; F @ Nom Voltage(Max)(Mhz): 70; Configuration: 3：8; Channels(#): 1; Rating: Catalog; Technology Family: FCT; Voltage(Nom)(V): 5; Schmitt Trigger: No; Output Drive (IOL/IOH)(Max)(mA): 64/-32; DatasheetVersion: SCCS013B; PackageReference: DBQ0016A; Supplier 1: Mouser; Supplier Part Number 1: 595-CY74FCT138CTQCT; Supplier 2: Digi-Key; Supplier Part Number 2: 296-38078-2-ND; Supplier 3: Digi-Key; Supplier Part Number 3: 296-38078-1-ND; Supplier 4: Digi-Key; Supplier Part Number 4: 296-38078-6-ND; Operating Temperature Range(C): -40 to 85; tpd @ Nom Voltage(Max)(ns): 5; ComponentLink1Description: Manufacturer URL; ComponentLink1URL: http://www.ti.com/; ComponentLink2Description: Datasheet; ComponentLink2URL: http://www.ti.com/lit/ds/symlink/cy74fct138t.pdf; ComponentLink3Description: Package Specification; ComponentLink3URL: http://www.ti.com/lit/ml/msoi004g/msoi004g.pdf
footprint DBQ0016A_N (SOP, 16-Leads, Body 5x4mm, Pitch 0.635mm, IPC Medium Density)
footprint DBQ0016A_M (SOP, 16-Leads, Body 5x4mm, Pitch 0.635mm, IPC Low Density)
footprint DBQ0016A_L (SOP, 16-Leads, Body 5x4mm, Pitch 0.635mm, IPC High Density)
pins: 1 A0 (in) "Address inputs", 2 A1 (in) "Address inputs", 3 A2 (in) "Address inputs", 4 ~{E}1 (in) "Enable inputs (active low)", 5 ~{E}2 (in) "Enable inputs (active low)", 6 E3 (in) "Enable input (active high)", 7 ~{O}7 (out) "Outputs", 8 GND (power), 9 ~{O}6 (out) "Outputs", 10 ~{O}5 (out) "Outputs", 11 ~{O}4 (out) "Outputs", 12 ~{O}3 (out) "Outputs", 13 ~{O}2 (out) "Outputs", 14 ~{O}1 (out) "Outputs", 15 ~{O}0 (out) "Outputs", 16 VCC (power)

## CY74FCT138CTSOC
designator U?
1-of-8 Decoder, DW0016A, TUBE; Generic Part Number: CY74FCT138T; Manufacturer: Texas Instruments; PartNumber: CY74FCT138CTSOC; VCC(Min)(V): 4.75; VCC(Max)(V): 5.25; Output Type: CMOS; ICC @ Nom Voltage(Max)(mA): 0.2; Input Type: TTL; Bits(#): 8; F @ Nom Voltage(Max)(Mhz): 70; Configuration: 3：8; Channels(#): 1; Rating: Catalog; Technology Family: FCT; Voltage(Nom)(V): 5; Schmitt Trigger: No; Output Drive (IOL/IOH)(Max)(mA): 64/-32; DatasheetVersion: SCCS013B; PackageReference: DW0016A; Supplier 1: Mouser; Supplier Part Number 1: 595-CY74FCT138CTSOC; Supplier 2: Digi-Key; Supplier Part Number 2: CY74FCT138CTSOC-ND; Operating Temperature Range(C): -40 to 85; tpd @ Nom Voltage(Max)(ns): 5; Code_JEDEC: MS-013 variation AA; ComponentLink1Description: Manufacturer URL; ComponentLink1URL: http://www.ti.com/; ComponentLink2Description: Datasheet; ComponentLink2URL: http://www.ti.com/lit/ds/symlink/cy74fct138t.pdf; ComponentLink3Description: Package Specification; ComponentLink3URL: http://www.ti.com/lit/ml/msoi003g/msoi003g.pdf
footprint DW0016A_N (SOIC, 16-Leads, Body 10.5x7.6mm, Pitch 1.27mm, IPC Medium Density)
footprint DW0016A_M (SOIC, 16-Leads, Body 10.5x7.6mm, Pitch 1.27mm, IPC Low Density)
footprint DW0016A_L (SOIC, 16-Leads, Body 10.5x7.6mm, Pitch 1.27mm, IPC High Density)
pins: 1 A0 (in) "Address inputs", 2 A1 (in) "Address inputs", 3 A2 (in) "Address inputs", 4 ~{E}1 (in) "Enable inputs (active low)", 5 ~{E}2 (in) "Enable inputs (active low)", 6 E3 (in) "Enable input (active high)", 7 ~{O}7 (out) "Outputs", 8 GND (power), 9 ~{O}6 (out) "Outputs", 10 ~{O}5 (out) "Outputs", 11 ~{O}4 (out) "Outputs", 12 ~{O}3 (out) "Outputs", 13 ~{O}2 (out) "Outputs", 14 ~{O}1 (out) "Outputs", 15 ~{O}0 (out) "Outputs", 16 VCC (power)

## CY74FCT138TQCT
designator U?
1-of-8 Decoder, DBQ0016A, LARGE T&R; Generic Part Number: CY74FCT138T; Manufacturer: Texas Instruments; PartNumber: CY74FCT138TQCT; VCC(Min)(V): 4.75; VCC(Max)(V): 5.25; Output Type: CMOS; Function: Decoder/Demultiplexer; ICC @ Nom Voltage(Max)(mA): 0.2; Input Type: TTL; Bits(#): 8; F @ Nom Voltage(Max)(Mhz): 70; Configuration: 3：8; Channels(#): 1; Rating: Catalog; Technology Family: FCT; Voltage(Nom)(V): 5; Schmitt Trigger: No; Output Drive (IOL/IOH)(Max)(mA): 64/-32; tpd @ Nom Voltage(Max)(ns): 6; DatasheetVersion: SCCS013B; PackageReference: DBQ0016A; Supplier 1: Mouser; Supplier Part Number 1: 595-CY74FCT138TQCT; Supplier 2: Digi-Key; Supplier Part Number 2: 296-23211-2-ND; Supplier 3: Digi-Key; Supplier Part Number 3: 296-23211-1-ND; Supplier 4: Digi-Key; Supplier Part Number 4: 296-23211-6-ND; Operating Temperature Range(C): -40 to 85; Type: Standard; ComponentLink1Description: Manufacturer URL; ComponentLink1URL: http://www.ti.com/; ComponentLink2Description: Datasheet; ComponentLink2URL: http://www.ti.com/lit/ds/symlink/cy74fct138t.pdf; ComponentLink3Description: Package Specification; ComponentLink3URL: http://www.ti.com/lit/ml/msoi004g/msoi004g.pdf
footprint DBQ0016A_N (SOP, 16-Leads, Body 5x4mm, Pitch 0.635mm, IPC Medium Density)
footprint DBQ0016A_M (SOP, 16-Leads, Body 5x4mm, Pitch 0.635mm, IPC Low Density)
footprint DBQ0016A_L (SOP, 16-Leads, Body 5x4mm, Pitch 0.635mm, IPC High Density)
pins: 1 A0 (in) "Address inputs", 2 A1 (in) "Address inputs", 3 A2 (in) "Address inputs", 4 ~{E}1 (in) "Enable inputs (active low)", 5 ~{E}2 (in) "Enable inputs (active low)", 6 E3 (in) "Enable input (active high)", 7 ~{O}7 (out) "Outputs", 8 GND (power), 9 ~{O}6 (out) "Outputs", 10 ~{O}5 (out) "Outputs", 11 ~{O}4 (out) "Outputs", 12 ~{O}3 (out) "Outputs", 13 ~{O}2 (out) "Outputs", 14 ~{O}1 (out) "Outputs", 15 ~{O}0 (out) "Outputs", 16 VCC (power)

## CY74FCT157ATDR
designator U?
Quad 2-Input Multiplexer, D0016A, LARGE T&R; Generic Part Number: CY74FCT157T; Manufacturer: Texas Instruments; PartNumber: CY74FCT157ATDR; VCC(Min)(V): 4.75; VCC(Max)(V): 5.25; Output Type: CMOS; ICC @ Nom Voltage(Max)(mA): 0.2; Input Type: TTL; Bits(#): 2; F @ Nom Voltage(Max)(Mhz): 70; Configuration: 2：1; Channels(#): 4; Rating: Catalog; Technology Family: FCT; Voltage(Nom)(V): 5; Schmitt Trigger: No; Output Drive (IOL/IOH)(Max)(mA): 64/-32; DatasheetVersion: SCCS014B; PackageReference: D0016A; Supplier 1: Mouser; Supplier Part Number 1: 595-CY74FCT157ATDR; Supplier 2: Digi-Key; Supplier Part Number 2: 296-38079-2-ND; Supplier 3: Digi-Key; Supplier Part Number 3: 296-38079-1-ND; Supplier 4: Digi-Key; Supplier Part Number 4: 296-38079-6-ND; Operating Temperature Range(C): -40 to 85; tpd @ Nom Voltage(Max)(ns): 5; Code_JEDEC: MS-012 variation AC; ComponentLink1Description: Manufacturer URL; ComponentLink1URL: http://www.ti.com/; ComponentLink2Description: Datasheet; ComponentLink2URL: http://www.ti.com/lit/ds/symlink/cy74fct157t.pdf; ComponentLink3Description: Package Specification; ComponentLink3URL: http://www.ti.com/lit/ml/mpds178g/mpds178g.pdf
footprint D0016A_N (SOIC, 16-Leads, Body 10x4mm, Pitch 1.27mm, IPC Medium Density)
footprint D0016A_M (SOIC, 16-Leads, Body 10x4mm, Pitch 1.27mm, IPC Low Density)
footprint D0016A_L (SOIC, 16-Leads, Body 10x4mm, Pitch 1.27mm, IPC High Density)
pins: 1 S (in) "Common select input", 2 I0A (in) "Data inputs from source 0", 3 I1A (in) "Data inputs from source 1", 4 YA (hiz) "Noninverted outputs", 5 I0B (in) "Data inputs from source 0", 6 I1B (in) "Data inputs from source 1", 7 YB (hiz) "Noninverted outputs", 8 GND (power), 9 YC (hiz) "Noninverted outputs", 10 I1C (in) "Data inputs from source 1", 11 I0C (in) "Data inputs from source 0", 12 YD (hiz) "Noninverted outputs", 13 I1D (in) "Data inputs from source 1", 14 I0D (in) "Data inputs from source 0", 15 ~{E} (in) "Enable inputs (active low)", 16 VCC (power)

## CY74FCT157ATQCT
designator U?
Quad 2-Input Multiplexer, DBQ0016A, LARGE T&R; Generic Part Number: CY74FCT157T; Manufacturer: Texas Instruments; PartNumber: CY74FCT157ATQCT; VCC(Min)(V): 4.75; VCC(Max)(V): 5.25; Output Type: CMOS; ICC @ Nom Voltage(Max)(mA): 0.2; Input Type: TTL; Bits(#): 2; F @ Nom Voltage(Max)(Mhz): 70; Configuration: 2：1; Channels(#): 4; Rating: Catalog; Technology Family: FCT; Voltage(Nom)(V): 5; Schmitt Trigger: No; Output Drive (IOL/IOH)(Max)(mA): 64/-32; DatasheetVersion: SCCS014B; PackageReference: DBQ0016A; Supplier 1: Mouser; Supplier Part Number 1: 595-CY74FCT157ATQCT; Supplier 2: Digi-Key; Supplier Part Number 2: CY74FCT157ATQCT-ND; Operating Temperature Range(C): -40 to 85; tpd @ Nom Voltage(Max)(ns): 5; ComponentLink1Description: Manufacturer URL; ComponentLink1URL: http://www.ti.com/; ComponentLink2Description: Datasheet; ComponentLink2URL: http://www.ti.com/lit/ds/symlink/cy74fct157t.pdf; ComponentLink3Description: Package Specification; ComponentLink3URL: http://www.ti.com/lit/ml/msoi004g/msoi004g.pdf
footprint DBQ0016A_N (SOP, 16-Leads, Body 5x4mm, Pitch 0.635mm, IPC Medium Density)
footprint DBQ0016A_M (SOP, 16-Leads, Body 5x4mm, Pitch 0.635mm, IPC Low Density)
footprint DBQ0016A_L (SOP, 16-Leads, Body 5x4mm, Pitch 0.635mm, IPC High Density)
pins: 1 S (in) "Common select input", 2 I0A (in) "Data inputs from source 0", 3 I1A (in) "Data inputs from source 1", 4 YA (hiz) "Noninverted outputs", 5 I0B (in) "Data inputs from source 0", 6 I1B (in) "Data inputs from source 1", 7 YB (hiz) "Noninverted outputs", 8 GND (power), 9 YC (hiz) "Noninverted outputs", 10 I1C (in) "Data inputs from source 1", 11 I0C (in) "Data inputs from source 0", 12 YD (hiz) "Noninverted outputs", 13 I1D (in) "Data inputs from source 1", 14 I0D (in) "Data inputs from source 0", 15 ~{E} (in) "Enable inputs (active low)", 16 VCC (power)

## CY74FCT157ATSOC
designator U?
Quad 2-Input Multiplexer, DW0016A, TUBE; Generic Part Number: CY74FCT157T; Manufacturer: Texas Instruments; PartNumber: CY74FCT157ATSOC; VCC(Min)(V): 4.75; VCC(Max)(V): 5.25; Output Type: CMOS; ICC @ Nom Voltage(Max)(mA): 0.2; Input Type: TTL; Bits(#): 2; F @ Nom Voltage(Max)(Mhz): 70; Configuration: 2：1; Channels(#): 4; Rating: Catalog; Technology Family: FCT; Voltage(Nom)(V): 5; Schmitt Trigger: No; Output Drive (IOL/IOH)(Max)(mA): 64/-32; DatasheetVersion: SCCS014B; PackageReference: DW0016A; Supplier 1: Mouser; Supplier Part Number 1: 595-CY74FCT157ATSOC; Supplier 2: Digi-Key; Supplier Part Number 2: CY74FCT157ATSOC-ND; Operating Temperature Range(C): -40 to 85; tpd @ Nom Voltage(Max)(ns): 5; Code_JEDEC: MS-013 variation AA; ComponentLink1Description: Manufacturer URL; ComponentLink1URL: http://www.ti.com/; ComponentLink2Description: Datasheet; ComponentLink2URL: http://www.ti.com/lit/ds/symlink/cy74fct157t.pdf; ComponentLink3Description: Package Specification; ComponentLink3URL: http://www.ti.com/lit/ml/msoi003g/msoi003g.pdf
footprint DW0016A_N (SOIC, 16-Leads, Body 10.5x7.6mm, Pitch 1.27mm, IPC Medium Density)
footprint DW0016A_M (SOIC, 16-Leads, Body 10.5x7.6mm, Pitch 1.27mm, IPC Low Density)
footprint DW0016A_L (SOIC, 16-Leads, Body 10.5x7.6mm, Pitch 1.27mm, IPC High Density)
pins: 1 S (in) "Common select input", 2 I0A (in) "Data inputs from source 0", 3 I1A (in) "Data inputs from source 1", 4 YA (hiz) "Noninverted outputs", 5 I0B (in) "Data inputs from source 0", 6 I1B (in) "Data inputs from source 1", 7 YB (hiz) "Noninverted outputs", 8 GND (power), 9 YC (hiz) "Noninverted outputs", 10 I1C (in) "Data inputs from source 1", 11 I0C (in) "Data inputs from source 0", 12 YD (hiz) "Noninverted outputs", 13 I1D (in) "Data inputs from source 1", 14 I0D (in) "Data inputs from source 0", 15 ~{E} (in) "Enable inputs (active low)", 16 VCC (power)

## CY74FCT157CTD
designator U?
Quad 2-Input Multiplexer, D0016A, TUBE; Generic Part Number: CY74FCT157T; Manufacturer: Texas Instruments; PartNumber: CY74FCT157CTD; VCC(Min)(V): 4.75; VCC(Max)(V): 5.25; Output Type: CMOS; ICC @ Nom Voltage(Max)(mA): 0.2; Input Type: TTL; Bits(#): 2; F @ Nom Voltage(Max)(Mhz): 70; Configuration: 2：1; Channels(#): 4; Rating: Catalog; Technology Family: FCT; Voltage(Nom)(V): 5; Schmitt Trigger: No; Output Drive (IOL/IOH)(Max)(mA): 64/-32; tpd @ Nom Voltage(Max)(ns): 4.3; DatasheetVersion: SCCS014B; PackageReference: D0016A; Supplier 1: Mouser; Supplier Part Number 1: 595-CY74FCT157CTD; Supplier 2: Digi-Key; Supplier Part Number 2: CY74FCT157CTD-ND; Operating Temperature Range(C): -40 to 85; Code_JEDEC: MS-012 variation AC; ComponentLink1Description: Manufacturer URL; ComponentLink1URL: http://www.ti.com/; ComponentLink2Description: Datasheet; ComponentLink2URL: http://www.ti.com/lit/ds/symlink/cy74fct157t.pdf; ComponentLink3Description: Package Specification; ComponentLink3URL: http://www.ti.com/lit/ml/mpds178g/mpds178g.pdf
footprint D0016A_N (SOIC, 16-Leads, Body 10x4mm, Pitch 1.27mm, IPC Medium Density)
footprint D0016A_M (SOIC, 16-Leads, Body 10x4mm, Pitch 1.27mm, IPC Low Density)
footprint D0016A_L (SOIC, 16-Leads, Body 10x4mm, Pitch 1.27mm, IPC High Density)
pins: 1 S (in) "Common select input", 2 I0A (in) "Data inputs from source 0", 3 I1A (in) "Data inputs from source 1", 4 YA (hiz) "Noninverted outputs", 5 I0B (in) "Data inputs from source 0", 6 I1B (in) "Data inputs from source 1", 7 YB (hiz) "Noninverted outputs", 8 GND (power), 9 YC (hiz) "Noninverted outputs", 10 I1C (in) "Data inputs from source 1", 11 I0C (in) "Data inputs from source 0", 12 YD (hiz) "Noninverted outputs", 13 I1D (in) "Data inputs from source 1", 14 I0D (in) "Data inputs from source 0", 15 ~{E} (in) "Enable inputs (active low)", 16 VCC (power)

## CY74FCT157CTQCT
designator U?
Quad 2-Input Multiplexer, DBQ0016A, LARGE T&R; Generic Part Number: CY74FCT157T; Manufacturer: Texas Instruments; PartNumber: CY74FCT157CTQCT; VCC(Min)(V): 4.75; VCC(Max)(V): 5.25; Output Type: CMOS; ICC @ Nom Voltage(Max)(mA): 0.2; Input Type: TTL; Bits(#): 2; F @ Nom Voltage(Max)(Mhz): 70; Configuration: 2：1; Channels(#): 4; Rating: Catalog; Technology Family: FCT; Voltage(Nom)(V): 5; Schmitt Trigger: No; Output Drive (IOL/IOH)(Max)(mA): 64/-32; tpd @ Nom Voltage(Max)(ns): 4.3; DatasheetVersion: SCCS014B; PackageReference: DBQ0016A; Supplier 1: Mouser; Supplier Part Number 1: 595-CY74FCT157CTQCT; Supplier 2: Digi-Key; Supplier Part Number 2: 296-12272-2-ND; Supplier 3: Digi-Key; Supplier Part Number 3: 296-12272-1-ND; Operating Temperature Range(C): -40 to 85; ComponentLink1Description: Manufacturer URL; ComponentLink1URL: http://www.ti.com/; ComponentLink2Description: Datasheet; ComponentLink2URL: http://www.ti.com/lit/ds/symlink/cy74fct157t.pdf; ComponentLink3Description: Package Specification; ComponentLink3URL: http://www.ti.com/lit/ml/msoi004g/msoi004g.pdf
footprint DBQ0016A_N (SOP, 16-Leads, Body 5x4mm, Pitch 0.635mm, IPC Medium Density)
footprint DBQ0016A_M (SOP, 16-Leads, Body 5x4mm, Pitch 0.635mm, IPC Low Density)
footprint DBQ0016A_L (SOP, 16-Leads, Body 5x4mm, Pitch 0.635mm, IPC High Density)
pins: 1 S (in) "Common select input", 2 I0A (in) "Data inputs from source 0", 3 I1A (in) "Data inputs from source 1", 4 YA (hiz) "Noninverted outputs", 5 I0B (in) "Data inputs from source 0", 6 I1B (in) "Data inputs from source 1", 7 YB (hiz) "Noninverted outputs", 8 GND (power), 9 YC (hiz) "Noninverted outputs", 10 I1C (in) "Data inputs from source 1", 11 I0C (in) "Data inputs from source 0", 12 YD (hiz) "Noninverted outputs", 13 I1D (in) "Data inputs from source 1", 14 I0D (in) "Data inputs from source 0", 15 ~{E} (in) "Enable inputs (active low)", 16 VCC (power)

## CY74FCT157CTSOC
designator U?
Quad 2-Input Multiplexer, DW0016A, TUBE; Generic Part Number: CY74FCT157T; Manufacturer: Texas Instruments; PartNumber: CY74FCT157CTSOC; VCC(Min)(V): 4.75; VCC(Max)(V): 5.25; Output Type: CMOS; ICC @ Nom Voltage(Max)(mA): 0.2; Input Type: TTL; Bits(#): 2; F @ Nom Voltage(Max)(Mhz): 70; Configuration: 2：1; Channels(#): 4; Rating: Catalog; Technology Family: FCT; Voltage(Nom)(V): 5; Schmitt Trigger: No; Output Drive (IOL/IOH)(Max)(mA): 64/-32; tpd @ Nom Voltage(Max)(ns): 4.3; DatasheetVersion: SCCS014B; PackageReference: DW0016A; Supplier 1: Mouser; Supplier Part Number 1: 595-CY74FCT157CTSOC; Supplier 2: Digi-Key; Supplier Part Number 2: 296-9438-5-ND; Operating Temperature Range(C): -40 to 85; Code_JEDEC: MS-013 variation AA; ComponentLink1Description: Manufacturer URL; ComponentLink1URL: http://www.ti.com/; ComponentLink2Description: Datasheet; ComponentLink2URL: http://www.ti.com/lit/ds/symlink/cy74fct157t.pdf; ComponentLink3Description: Package Specification; ComponentLink3URL: http://www.ti.com/lit/ml/msoi003g/msoi003g.pdf
footprint DW0016A_N (SOIC, 16-Leads, Body 10.5x7.6mm, Pitch 1.27mm, IPC Medium Density)
footprint DW0016A_M (SOIC, 16-Leads, Body 10.5x7.6mm, Pitch 1.27mm, IPC Low Density)
footprint DW0016A_L (SOIC, 16-Leads, Body 10.5x7.6mm, Pitch 1.27mm, IPC High Density)
pins: 1 S (in) "Common select input", 2 I0A (in) "Data inputs from source 0", 3 I1A (in) "Data inputs from source 1", 4 YA (hiz) "Noninverted outputs", 5 I0B (in) "Data inputs from source 0", 6 I1B (in) "Data inputs from source 1", 7 YB (hiz) "Noninverted outputs", 8 GND (power), 9 YC (hiz) "Noninverted outputs", 10 I1C (in) "Data inputs from source 1", 11 I0C (in) "Data inputs from source 0", 12 YD (hiz) "Noninverted outputs", 13 I1D (in) "Data inputs from source 1", 14 I0D (in) "Data inputs from source 0", 15 ~{E} (in) "Enable inputs (active low)", 16 VCC (power)